# Altium integrated library SN74LS74AD.IntLib: 1 symbol
Pins are listed as number, name and electrical type; pins without a type are passive.

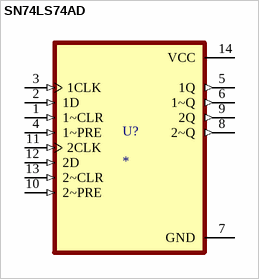
[diagram p0: symbol SN74LS74AD]

## SN74LS74AD
designator U?
Dual D-type pos.-edge-triggered flip-flops with preset and clear 14-SOIC 0 to 70; MP: SN74LS74AD; MF: Texas Instruments; Value: *; SnapEDA_Link: https://www.snapeda.com/parts/SN74LS74AD/Texas%20Instruments/view-part/580890/?ref=snap; Price: None; Package: SOIC-14 Texas Instruments; Check_prices: https://www.snapeda.com/parts/SN74LS74AD/Texas%20Instruments/view-part/580890/?ref=eda; Availability: Good; Purchase-URL: https://pricing.snapeda.com/search/part/SN74LS74AD/?ref=eda
footprint SOIC127P600X175-14N
pins: 1 1~CLR (in), 2 1D (in), 3 1CLK (in), 4 1~PRE (in), 5 1Q (out), 6 1~Q (out), 7 GND (power), 8 2~Q (out), 9 2Q (out), 10 2~PRE (in), 11 2CLK (in), 12 2D (in), 13 2~CLR (in), 14 VCC (power)